# Altium footprint library Fairchild NMOS - DPAK.PcbLib: 1 footprints
Each footprint in its own frame and in the unit in brackets; x right, y up, seen from the top. Pads: shape width x height; smd on the part's side, far side on the other; paste and mask are expansions set on the pad; w line width, h text height; cw(c..) or ccw(c..) is an arc to the next point about the centre after c.
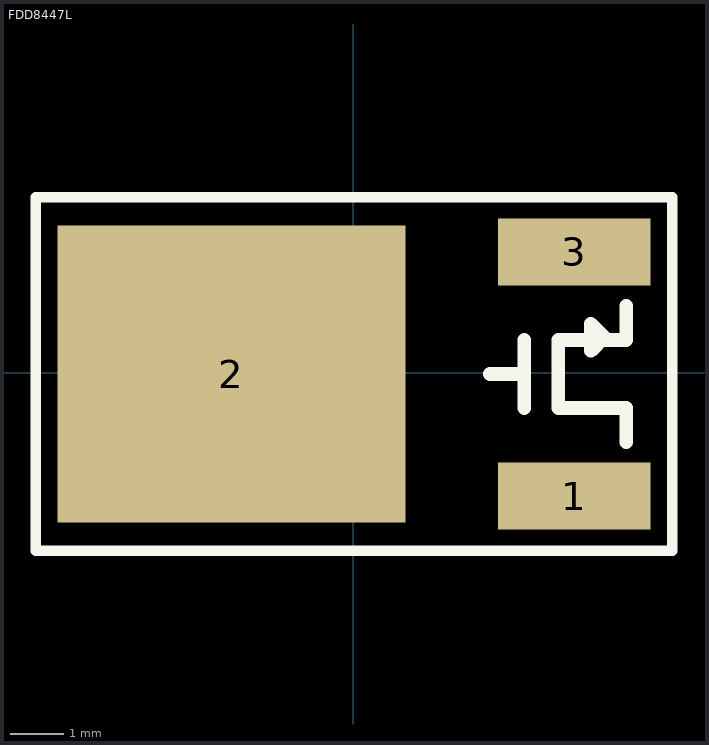
[diagram p0: the footprint, top view; thin cyan lines are the x and y axes]

## FDD8447L [mm]
pads (3):
  rect 2.85x1.25 smd: 1(4.125,-2.305) 3(4.125,2.255)
  rect 6.5x5.55 smd: 2(-2.275,-0.025)
Top Overlay:
  lines w0.2: -5.925,-3.325 -5.925,3.275 5.95,3.275 5.95,-3.325 -5.925,-3.325
  lines w0.254: 2.551,-0.025 3.186,-0.025 3.186,-0.66 3.186,0.61 ; 5.091,-1.295 5.091,-0.66 3.821,-0.66 3.821,0.61 5.091,0.61 5.091,1.245 ; 4.434,0.406 4.434,0.914 4.688,0.66 4.434,0.406
3D body "User Library-DPAK-1.step": height 2.41, standoff 0, extent -4.879,-3.295 5.06,3.245